# Altium schematic symbol library IC.SchLib: 27 symbols
Pins are listed as number, name and electrical type; pins without a type are passive.

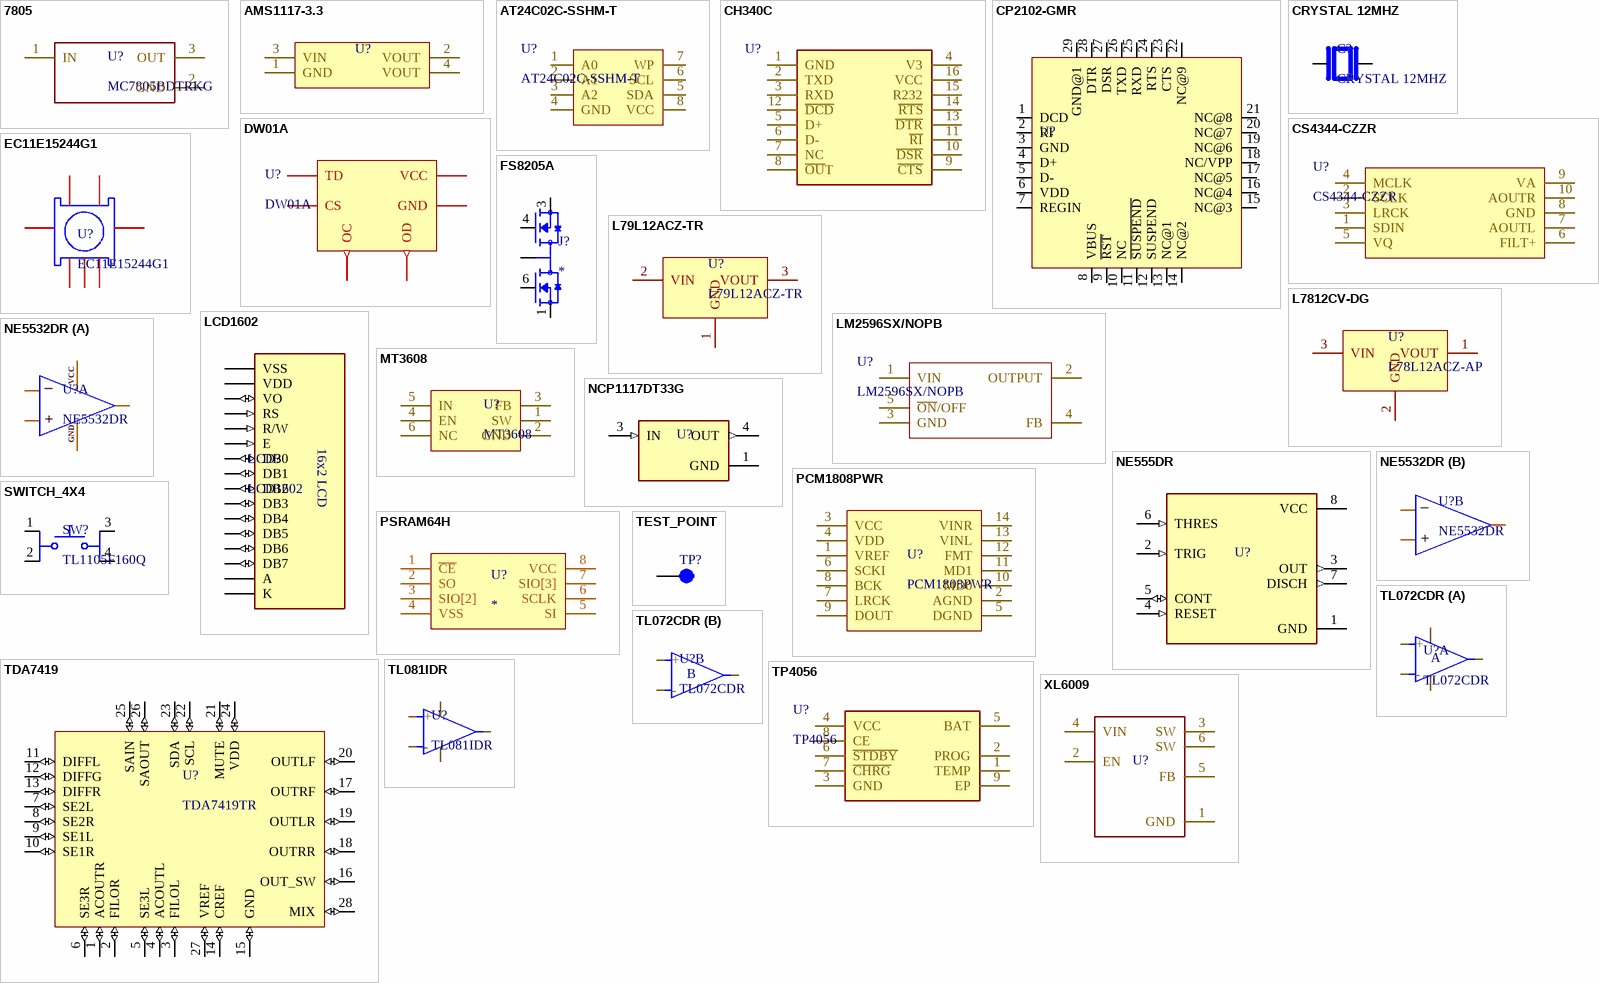
[diagram p0: symbols 7805 to XL6009]

## 7805
designator U?, comment MC7805BDTRKG
68dB@(120Hz) 1A Fixed 5V Positive 24V TO-252-2(DPAK) Voltage Regulators - Linear, Low Drop Out (LDO) Regulators ROHS; Manufacturer: onsemi; Mfr. Part #: MC7805BDTRKG; LCSC Part #: C110908; Package: TO-252-2(DPAK); Output Current: 1A; Output Voltage: 5V; Voltage - Supply: 24V; Link: https://www.lcsc.com/product-detail/C110908.html?s_z=n_7805
footprint 7805
pins: 1 IN, 2 GND (power), 3 OUT

## AMS1117-3.3
designator U?
72dB@(120Hz) 1A Fixed 3.3V Positive 16V SOT-223 Voltage Regulators - Linear, Low Drop Out (LDO) Regulators ROHS; Manufacturer: Advanced Monolithic Systems; Mfr. Part #: AMS1117-3.3; LCSC Part #: C6186; Link: https://www.lcsc.com/product-detail/C6186.html?s_z=n_ams1117-3.3; Output Current: 1A; Package: SOT-223
footprint AMS1117-3.3
pins: 1 GND, 2 VOUT, 3 VIN, 4 VOUT

## AT24C02C-SSHM-T
designator U?
2Kbit 1MHz I2C SOIC-8 EEPROM ROHS; Manufacturer: MICROCHIP; Key Attributes: I²C-Compatible (2-wire) Serial EEPROM; Write Cycle Endurance: 1,000,000 Cycles; Voltage - Supply: 1.7V~5.5V; Mfr. Part #: AT24C02C-SSHM-T; LCSC Part #: C6203; Package: SOIC-8; Link: https://www.lcsc.com/product-detail/C6203.html?s_z=n_24C02; Interface: I2C; Memory Size: 2Kbit
footprint AT24C02C-SSHM-T
pins: 1 A0, 2 A1, 3 A2, 4 GND, 5 SDA, 6 SCL, 7 WP, 8 VCC

## CH340C
designator U?
2Mbps Transceiver USB 2.0 SOP-16 USB Converters ROHS; Manufacturer: WCH; Mfr. Part #: CH340C; Voltage - Supply: 3.3V;5V; LCSC Part #: C84681; Package: SOP-16; Link: https://www.lcsc.com/product-detail/C84681.html?s_z=n_CH340C
footprint CH340C
pins: 1 GND, 2 TXD, 3 RXD, 4 V3, 5 D+, 6 D-, 7 NC, 8 ~{OU}T, 9 ~{CTS}, 10 ~{DSR}, 11 ~{RI}, 12 ~{DCD}, 13 ~{DTR}, 14 ~{RTS}, 15 R232, 16 VCC

## CP2102-GMR
designator U?
12Mbps Transceiver WQFN-28-EP(5x5) USB Converters ROHS; Manufacturer: SILICON LABS; Mfr. Part #: CP2102-GMR; Voltage - Supply: 3V~3.6V; LCSC Part #: C6568; Package: WQFN-28-EP(5x5); Link: https://www.lcsc.com/product-detail/C6568.html?s_z=n_CP2102-GMR
footprint CP2102-GMR
pins: 1 DCD (io), 2 RI (io), 3 GND (io), 4 D+ (io), 5 D- (io), 6 VDD (io), 7 REGIN (io), 8 VBUS (io), 9 ~{RST} (io), 10 NC (io), 11 ~{SUSPEND} (io), 12 SUSPEND (io), 13 NC@1 (io), 14 NC@2 (io), 15 NC@3 (io), 16 NC@4 (io), 17 NC@5 (io), 18 NC/VPP (io), 19 NC@6 (io), 20 NC@7 (io), 21 NC@8 (io), 22 NC@9 (io), 23 CTS (io), 24 RTS (io), 25 RXD (io), 26 TXD (io), 27 DSR (io), 28 DTR (io), 29 GND@1 (io)

## CRYSTAL 12MHZ
designator C?
12MHz Crystal Oscillator 20pF ±20ppm ±30ppm HC-49S-SMD Crystals ROHS; Manufacturer: YXC Crystal Oscillators; Mfr. Part #: X49SM12MSD2SC; LCSC Part #: C14871; Design Item ID: CRYSTAL 12MHZ; Load Capacitance: 20pF; Link: https://www.lcsc.com/product-detail/C14871.html?s_z=n_12Mhz
footprint CRYSTAL 12MHZ
pins: 1, 2

## CS4344-CZZR
designator U?
250ms I2S 3.3V~5V 24 TSSOP-10-3mm Digital to Analog Converters (DAC) ROHS; Manufacturer: Cirrus Logic; Key Attributes: 10-Pin, 24-Bit, 192 kHz Stereo D/A Converter; Number of Channels: 2; Mfr. Part #: CS4344-CZZR; LCSC Part #: C8952; Package: TSSOP-10-3mm; Link: https://www.lcsc.com/product-detail/C8952.html?s_z=n_cs4344; Voltage - Supply: 3.3V~5V; Interface: I2S
footprint CS4344-CZZR
pins: 1 SDIN, 2 SCLK, 3 LRCK, 4 MCLK, 5 VQ, 6 FILT+, 7 AOUTL, 8 GND, 9 VA, 10 AOUTR

## DW01A
designator U?
1.5V~8V Lithium-ion/Polymer 1 SOT-23-6 Battery Management ROHS; Manufacturer: YONGYUTAI; Key Attributes: Lithium battery protection circuit; Charging Saturation Voltage: 4.3V; Mfr. Part #: DW01A; LCSC Part #: C2927799; Package: SOT-23-6; Voltage - Supply: 1.5V~8V; Link: https://www.lcsc.com/product-detail/C2927799.html?s_z=n_DW-01A
footprint DW01A
pins: 1 OD (out), 2 CS, 3 OC (out), 4 TD, 5 VCC, 6 GND

## EC11E15244G1
designator U?
Through Hole Rotary Encoders ROHS; Manufacturer: ALPSALPINE; Mfr. Part #: EC11E15244G1; LCSC Part #: C370970; Package: Through Hole; Link: https://www.lcsc.com/product-detail/C370970.html?s_z=n_EC11
footprint EC11
pins: 6, 7, A, B, C, D, E

## FS8205A
designator J?
20V 9A 31.5mΩ@2.5V 1.5W 1.2V@250uA SOT-23-6 MOSFETs ROHS; Manufacturer: TECH PUBLIC; Mfr. Part #: FS8205A; Package: SOT-23-6; LCSC Part #: C2830320; Drain to Source Voltage: 20V; Current - Continuous Drain(Id): 9A; Link: https://www.lcsc.com/product-detail/C2830320.html?s_z=n_fs8205a
footprint FS8205A
pins: 1 S1, 2 D12, 3 S2, 4 G2, 5 D12, 6 G1

## L79L12ACZ-TR
designator U?
37dB@(120Hz) 100mA Fixed 12V Negative 27V TO-92-3 Voltage Regulators - Linear, Low Drop Out (LDO) Regulators ROHS; Parameter 1: ST; Key Attributes: Negative Voltage Regulator; Number of Outputs: 1; Voltage Dropout: 1.7V; Output Configuration: Positive; Mfr. Part #: L79L12ACZ-TR; LCSC Part #: C2942984; Package: TO-92-3; Voltage - Supply: 27V; Output Voltage: 12V; Link: https://www.lcsc.com/product-detail/C2942984.html?s_z=n_79L12
footprint L79L12ACZ-TR
pins: 1 GND, 2 VIN, 3 VOUT

## L7812CV-DG
designator U?, comment L78L12ACZ-AP
42dB@(120Hz) 100mA Fixed 12V Positive 35V TO-92-3 Voltage Regulators - Linear, Low Drop Out (LDO) Regulators ROHS; Parameter 1: ST; Key Attributes: 0.1A Positive Voltage Regulator; Number of Outputs: 1; Voltage Dropout: 1.7V; Mfr. Part #: L78L12ACZ-AP; LCSC Part #: C262913; Package: TO-92-3; Voltage - Supply: 35V; Output Voltage: 12V; Output Configuration: Positive; Link: https://www.lcsc.com/product-detail/C262913.html?s_z=n_78L12
footprint L78L12ACZ-AP
pins: 1 VOUT, 2 GND, 3 VIN

## LCD1602
designator LCD?
2 SPLC780 LCD Screen ROHS; Manufacturer: HS; Mfr. Part #: HS1602A-Y; Controller Type: SPLC780; Operating Temperature: -20℃~+70℃; LCSC Part #: C18198250; Link: https://www.lcsc.com/product-detail/C18198250.html?s_z=n_lcd1602
footprint LCD16x2
pins: 1 VSS (power), 2 VDD (power), 3 VO (io), 4 RS (in), 5 R/W (in), 6 E (in), 7 DB0 (io), 8 DB1 (io), 9 DB2 (io), 10 DB3 (io), 11 DB4 (io), 12 DB5 (io), 13 DB6 (io), 14 DB7 (io), 15 A (power), 16 K (power)
text: 16x2 LCD

## LM2596SX/NOPB
designator U?
150kHz Buck Fixed 1 TO-263-5 Voltage Regulators - DC DC Switching Regulators RoHS; Manufacturer: TI; Key Attributes: LM2596 SIMPLE SWITCHER 3A Step-Down Voltage Regulator; Mfr. Part #: LM2596SX/NOPB; LCSC Part #: C10002; Package: TO-263-5; Link: https://www.lcsc.com/product-detail/C10002.html?s_z=n_lm2596
footprint LM2596SX-5.0/NOPB (150kHz Buck Fixed 1 TO-263-5 Voltage Regulators - DC DC Switching Regulators RoHS)
pins: 1 VIN, 2 OUTPUT, 3 GND, 4 FB, 5 ~{ON}/OFF

## MT3608
designator U?
Boost Adjustable 2A 2V~24V SOT-23-6 DC-DC Converters ROHS; Manufacturer: XI'AN Aerosemi Tech; Frequency - Switching: 1.2MHz; Mfr. Part #: MT3608; LCSC Part #: C84817; Package: SOT-23-6; Function: Boost; Link: https://www.lcsc.com/product-detail/C84817.html?s_z=n_mt3608
footprint MT3608
pins: 1 SW, 2 GND, 3 FB, 4 EN, 5 IN, 6 NC

## NCP1117DT33G
designator U?
64dB@(120Hz) 1A Fixed 3.3V Positive 20V TO-252 Voltage Regulators - Linear, Low Drop Out (LDO) Regulators ROHS; Manufacturer: onsemi; Mfr. Part #: NCP1117DT33G; LCSC Part #: C154606; Package: TO-252; Link: 64dB@(120Hz) 1A Fixed 3.3V Positive 20V TO-252 Voltage Regulators - Linear, Low Drop Out (LDO) Regulators ROHS; Output Current: 1A; Output Voltage: 3.3V; Voltage - Supply: 20V; Parameter 1: https://www.lcsc.com/product-detail/C154606.html?s_z=n_NCP1117DT33G
footprint NCP1117DT33G
pins: 1 GND (power), 3 IN (in), 4 OUT (out)

## NE555DR
designator U?
SOIC-8 555 Timers / Counters ROHS; Manufacturer: TI; Mfr. Part #: NE555DR; LCSC Part #: C7593; Package: SOIC-8; Link: https://www.lcsc.com/product-detail/C7593.html?s_z=n_NE555DR
footprint NE555DR
pins: 1 GND (power), 2 TRIG (in), 3 OUT (out), 4 RESET (in), 5 CONT (io), 6 THRES (in), 7 DISCH (out), 8 VCC (power)

## NE5532DR
designator U?
2 1uA 9V/us 10MHz 500uV SOIC-8 Operational Amplifier ROHS; Manufacturer: TI; Key Attributes: Dual Low-Noise Operational Amplifiers; Common Mode Rejection Ratio(CMRR): 100dB; Dual Supply: -15V~15V; Noise density(eN): 5nV/√Hz@1kHz; Mfr. Part #: NE5532DR; Package: SOIC-8; LCSC Part #: C7426; Slew Rate: 9V/us; Link: https://www.lcsc.com/product-detail/C7426.html?s_z=n_ne5532
footprint NE5532DR
part A pins: 1 OUT, 2 -, 3 +, 4 GND, 8 VCC
part B pins: 5 +, 6 -, 7 OUT
part A text: _
part B text: _

## PCM1808PWR
designator U?
4.5V~5.5V 24 I2S TSSOP-14 ADCs/DACs - Special Purpose ROHS; Manufacturer: TI; Key Attributes: Single-ended analog input 24-bit 96kHz stereo A/D converter; Number of Channels: 2; Mfr. Part #: PCM1808PWR; LCSC Part #: C55513; Package: TSSOP-14; Voltage - Supply: 4.5V~5.5V; Interface: I2S; Link: https://www.lcsc.com/product-detail/C55513.html?s_z=n_pcm1808
footprint PCM1808PWR
pins: 1 VREF, 2 AGND, 3 VCC, 4 VDD, 5 DGND, 6 SCKI, 7 LRCK, 8 BCK, 9 DOUT, 10 MD0, 11 MD1, 12 FMT, 13 VINL, 14 VINR

## PSRAM64H
designator U?
footprint PSRAM64H
pins: 1 ~{CE}, 2 SO, 3 SIO[2], 4 VSS, 5 SI, 6 SCLK, 7 SIO[3], 8 VCC

## SWITCH_4X4
designator SW?, comment TL1105F160Q
6mm 0.7mm Round Button 50mA Through Hole 6mm SPST 1.6N 12V Through Hole,6x6mm Tactile Switches ROHS; Manufacturer: E-Switch; Mfr. Part #: TL1105F160Q; LCSC Part #: C273473; Package: Through Hole,6x6mm; Link: https://www.lcsc.com/product-detail/C273473.html?s_z=n_TL1105F160Q; Width: 6mm; Length: 6mm
footprint SWITCH_4X4
pins: 1, 2, 3, 4

## TDA7419
designator U?, comment TDA7419TR
SO-28-300mil Audio Interface ICs ROHS; Manufacturer: ST; Interface: I2C; Voltage - Supply: 8-10V; Mfr. Part #: TDA7419TR; LCSC Part #: C391143; Package: SOIC-28-300mil; Link: https://www.lcsc.com/product-detail/C2971667.html?s_z=n_tda7419
footprint TDA7419
pins: 1 ACOUTR (io), 2 FILOR (io), 3 FILOL (io), 4 ACOUTL (io), 5 SE3L (io), 6 SE3R (io), 7 SE2L (io), 8 SE2R (io), 9 SE1L (io), 10 SE1R (io), 11 DIFFL (io), 12 DIFFG (io), 13 DIFFR (io), 14 CREF (io), 15 GND (io), 16 OUT_SW (io), 17 OUTRF (io), 18 OUTRR (io), 19 OUTLR (io), 20 OUTLF (io), 21 MUTE (io), 22 SCL (io), 23 SDA (io), 24 VDD (io), 25 SAIN (io), 26 SAOUT (io), 27 VREF (io), 28 MIX (io)

## TEST_POINT
designator TP?, comment TEST POINT  (value not drawn)
TP: TEST POINT
footprint TEST_POINT
pins: 1 TP

## TL072CDR
designator U?
3mV 65pA 3MHz 13V/us 2 SOIC-8 FET Input Amplifiers ROHS; Manufacturer: TI; Noise density(eN): 18nV/√Hz@1kHz; Dual Supply: -15V~15V; Number of Channels: 2; LCSC Part #: C67473; Package: SOIC-8; Gain Bandwidth Product: 3MHz; Link: https://www.lcsc.com/product-detail/C67473.html?s_z=n_TL072CDR; Mfr. Part #: TL072CDR
footprint TL072CDR
part A pins: 1 out, 2 -, 3 +, 4 GND, 8
part B pins: 5 +, 6 -, 7 out
part A text: A
part B text: B

## TL081IDR
designator U?
3mV 30pA 5.25MHz 20V/us 1.0 SOIC-8 FET Input Amplifiers ROHS; Manufacturer: TI; Noise density(eN): 18nV/√Hz@1kHz; Maximum Power Supply Range (Vdd-Vss): 40V; Single Supply: 4.5V~40V; Dual Supply: -20V~-2.25V;2.25V~20V; Number of Channels: 1.0; Input Offset Voltage Drift(Vos TC): 2uV/℃; Mfr. Part #: TL081IDR; LCSC Part #: C2057919; Package: SOIC-8; Gain Bandwidth Product: 5.25MHz; Link: https://www.lcsc.com/product-detail/C2057919.html?s_z=n_TL081IDR
footprint TL081IDR
pins: 2 -, 3 +, 4 GND, 6 out, 7 VCC

## TP4056
designator U?
4V~6V Lithium-ion/Polymer 1 ESOP-8 Battery Management ROHS; Manufacturer: TPOWER; Key Attributes: 1A Lithium Battery Charger; Number of Cells: 1; Charging Saturation Voltage: 4.2V; Mfr. Part #: TP4056; LCSC Part #: C382139; Package: ESOP-8; Voltage - Supply: 4V~6V; Link: https://www.lcsc.com/product-detail/C382139.html?s_z=n_TP4056
footprint TP4056
pins: 1 TEMP, 2 PROG, 3 GND, 4 VCC, 5 BAT, 6 ~{STDBY}, 7 ~{CHRG}, 8 CE, 9 EP

## XL6009
designator U?  (value not drawn)
footprint XL6009
pins: 1 GND, 2 EN, 3 SW, 4 VIN, 5 FB, 6 SW